# EAGLE library part 8432-21B1-RK-TP (library SamacSys_Parts)
IC & Component Sockets 32P PLCC SOCKET SMT W/O LOC POSTS Source: Datasheet <https://multimedia.3m.com/mws/media/358814O/3mtm-chip-carrier-sockets-4-row-sm-8400-series-ts2147.pdf>
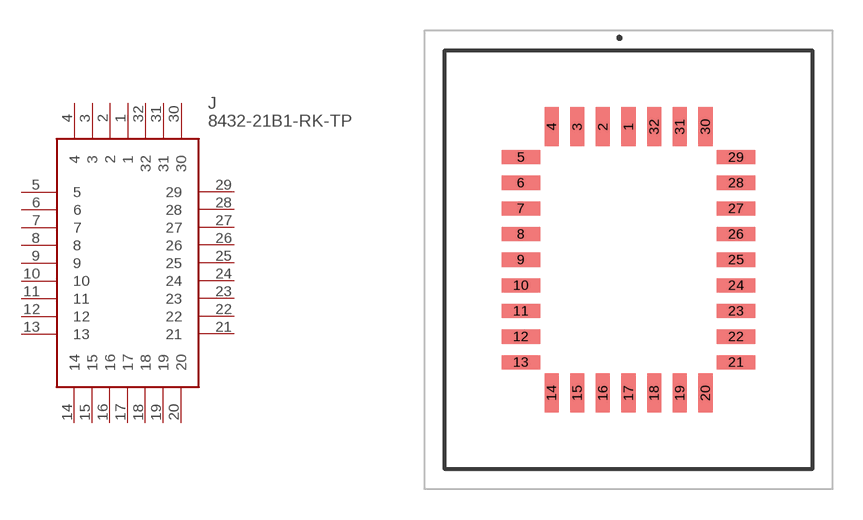
[diagram p167: symbol with the pads of 843221B1RKTP; footprint 843221B1RKTP]

Designator prefix J

## 8432-21B1-RK-TP (DESCRIPTION: IC & Component Sockets 32P PLCC SOCKET SMT W/O LOC POSTS; HEIGHT: 4.8mm; MANUFACTURER_NAME: 3M; MANUFACTURER_PART_NUMBER: 8432-21B1-RK-TP; MOUSER_PART_NUMBER: 517-8432-21B1-RK-TP; MOUSER_PRICE-STOCK: https://www.mouser.co.uk/ProductDetail/3M-Electronic-Solutions-Division/8432-21B1-RK-TP?qs=WZRMhwwaLl9k2uIBIbK4LA%3D%3D)  [843221B1RKTP]
1  1
2  2
3  3
4  4
5  5
6  6
7  7
8  8
9  9
10  10
11  11
12  12
13  13
14  14
15  15
16  16
17  17
18  18
19  19
20  20
21  21
22  22
23  23
24  24
25  25
26  26
27  27
28  28
29  29
30  30
31  31
32  32

## Footprint 843221B1RKTP (pad centres in mm)
8432-21B1-RK-TP-1
smd 0.7 x 1.91: 1 0,6.6; 2 -1.27,6.6; 3 -2.54,6.6; 4 -3.81,6.6; 14 -3.81,-6.6; 15 -2.54,-6.6; 16 -1.27,-6.6; 17 0,-6.6; 18 1.27,-6.6; 19 2.54,-6.6; 20 3.81,-6.6; 30 3.81,6.6; 31 2.54,6.6; 32 1.27,6.6
smd 1.91 x 0.7: 5 -5.33,5.08; 6 -5.33,3.81; 7 -5.33,2.54; 8 -5.33,1.27; 9 -5.33,0; 10 -5.33,-1.27; 11 -5.33,-2.54; 12 -5.33,-3.81; 13 -5.33,-5.08; 21 5.33,-5.08; 22 5.33,-3.81; 23 5.33,-2.54; 24 5.33,-1.27; 25 5.33,0; 26 5.33,1.27; 27 5.33,2.54; 28 5.33,3.81; 29 5.33,5.08